# Altium footprint library PCB库.PcbLib: 36 footprints (part 1 of 3)
Each footprint in its own frame and in the unit in brackets; x right, y up, seen from the top. Pads: shape width x height; smd on the part's side, far side on the other; paste and mask are expansions set on the pad; w line width, h text height; cw(c..) or ccw(c..) is an arc to the next point about the centre after c.
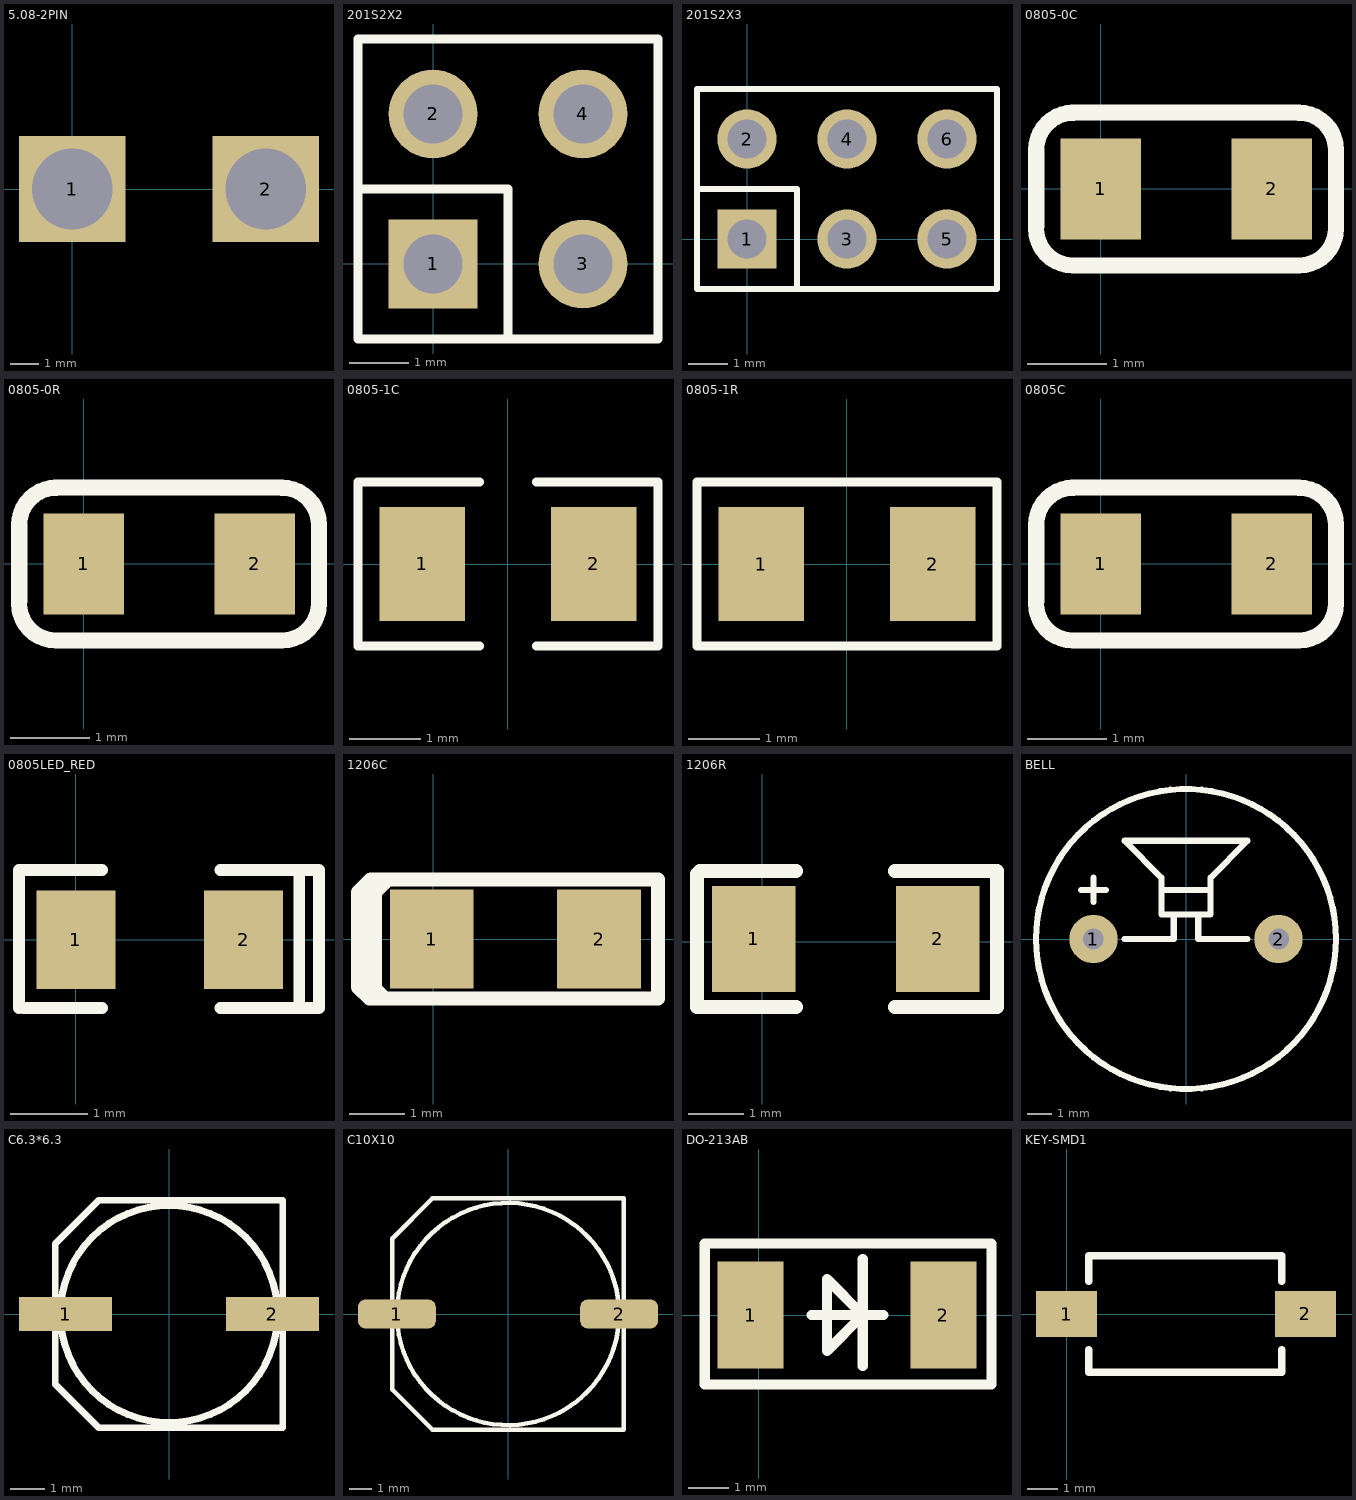
[diagram p0: the footprints below, top view; thin cyan lines are the x and y axes]

## 5.08-2PIN [mm]
pads (2):
  rect 3.7x3.7 hole 2.8: 1(0,0) 2(6.731,0)

## 201S2X2 [mm]
pads (4):
  rect 1.5x1.5 hole 1: 1(0,0)
  round 1.5 hole 1: 2(0,2.54) 3(2.54,0) 4(2.54,2.54)
Top Overlay:
  lines w0.15: -1.27,1.27 1.27,1.27 1.27,-1.27 ; -1.27,-1.27 3.81,-1.27 3.81,3.81 -1.27,3.81 -1.27,-1.27
3D body "User Library-PLD-4.step": height 8.54, standoff -3, extent -1.27,-1.27 3.81,3.81

## 201S2X3 [mm]
pads (6):
  rect 1.5x1.5 hole 1: 1(0,0)
  round 1.5 hole 1: 2(0,2.54) 3(2.54,0) 4(2.54,2.54) 5(5.08,0) 6(5.08,2.54)
Top Overlay:
  lines w0.15: -1.27,1.27 1.27,1.27 1.27,-1.27 ; -1.27,-1.27 -1.27,3.81 6.35,3.81 6.35,-1.27 -1.27,-1.27
3D body "User Library-PLD-6.step": height 8.4, standoff -3, extent -1.27,-1.23 6.35,3.77

## 0805-0C [mil]
height 39.37
pads (2):
  rect 40x50 smd: 1(0,0) 2(85,0)
Top Overlay:
  lines w8: -32.11,-19.59 ccw(c-13.7,-19.59) -13.7,-38 ; -32,-18.5 -32,18.5 ; -32,19.5 cw(c-13.59,19.5) -13.59,37.91 ; -14.12,38 98.09,38 ; -12.7,-38 98.11,-38 ; 98.59,-38 ccw(c98.59,-19.59) 117,-19.59 ; 98.59,37.91 cw(c98.59,19.5) 117,19.5 ; 117,-18.59 117,18.5
3D body "User Library-0805 SMD Capacitor.STEP": height 30.39, standoff -0.39, extent 3.15,-24.61 81.89,24.61

## 0805-0R [mil]
height 39.37
pads (2):
  rect 40x50 smd: 1(0,0) 2(85,0)
Top Overlay:
  lines w8: -32.11,-19.59 ccw(c-13.7,-19.59) -13.7,-38 ; -32,-18.5 -32,18.5 ; -32,19.5 cw(c-13.59,19.5) -13.59,37.91 ; -14.12,38 98.09,38 ; -12.7,-38 98.11,-38 ; 98.59,-38 ccw(c98.59,-19.59) 117,-19.59 ; 98.59,37.91 cw(c98.59,19.5) 117,19.5 ; 117,-18.59 117,18.5
3D body "User Library-0805 SMD R.STEP": height 30.39, standoff -0.39, extent 3.26,-24.61 82,24.61

## 0805-1C [mm]
pads (2):
  rect 1.2x1.6 smd: 1(-1.2,0) 2(1.2,0)
Top Overlay:
  lines w0.127: -0.4,-1.15 -2.1,-1.15 -2.1,1.15 -0.4,1.15 ; 0.4,-1.15 2.1,-1.15 2.1,1.15 0.4,1.15
3D body "Capacitor 0805 SMD.step": height 0.93, standoff -0.01, extent -1.455,-0.719 1.545,0.681

## 0805-1R [mm] "small type  ver20150428"
pads (2):
  rect 1.2x1.6 smd: 1(-1.2,0) 2(1.2,0)
Top Overlay:
  lines w0.127: -2.1,-1.15 -2.1,1.15 2.1,1.15 2.1,-1.15 -2.1,-1.15
3D body "User Library-RES_2013-0805.STEP": height 0.76, standoff 0, extent -1.09,-0.645 1.21,0.705

## 0805C [mil]
pads (2):
  rect 40x50 smd: 1(0,0) 2(85,0)
Top Overlay:
  lines w8: -32.11,-19.59 ccw(c-13.7,-19.59) -13.7,-38 ; -32,-18.5 -32,18.5 ; -32,19.5 cw(c-13.59,19.5) -13.59,37.91 ; -14.12,38 98.09,38 ; -12.7,-38 98.11,-38 ; 98.59,-38 ccw(c98.59,-19.59) 117,-19.59 ; 98.59,37.91 cw(c98.59,19.5) 117,19.5 ; 117,-18.59 117,18.5
3D body "User Library-0805 SMD Capacitor.STEP": height 30.39, standoff -0.39, extent 3.15,-24.61 81.89,24.61

## 0805LED_RED [mil]
pads (2):
  rect 40x50 smd: 1(0,0) 2(85,0)
Top Overlay:
  lines w5.98: 113.15,-34.61 123.15,-34.61 ; 113.15,35.39 123.15,35.39
  lines w6: -28.86,-34.61 -28.86,35.39 13.15,35.39 ; -26.85,-34.61 13.15,-34.61 ; 73.15,-34.61 113.15,-34.61 113.15,35.39 73.15,35.39 ; 123.15,-34.61 123.15,35.39
3D body "User Library-led_0805.STEP": height 43.31, standoff 0, extent 3.39,-24.21 82.91,25

## 1206C [mil]
pads (2):
  rect 59.06x70 smd: 1(-1,0) 2(117.11,0)
Top Overlay:
  lines w10: -46,-35 -46,35 ; -41,-25 -41,-34.94 -33.94,-42 -44.94,-42 -52.94,-34 -52.94,33 -43.94,42 -41,42 ; -41,21 -41,32.94 -31.94,42 ; -41,42 -41,-41 -40,-42 35,-42 84.69,-42 158.69,-42 158.69,41 158.69,42 83.69,42 35,42 -41,42
3D body "User Library-cap_1206_0_95.step": height 37.4, standoff 0, extent -5,-32 120.98,30.99

## 1206R [mil]
pads (2):
  rect 59.06x75 smd: 1(-6,2) 2(124,2)
Top Overlay:
  lines w10: 24,-46 -46,-46 -46,48 -44,50 24,50 ; 94,-46 166,-46 166,-2 166,50 94,50
3D body "User Library-RES_3216-1206.STEP": height 33.46, standoff 0, extent -7.94,-32 123.94,36.11

## BELL [mm]
pads (2):
  round 2 hole 0.85: 1(-3.825,0) 2(3.825,0)
Top Overlay:
  circle w0.254: c0,0 r6.2
  lines w0.254: -4.333,2.032 -3.317,2.032 ; -3.825,1.524 -3.825,2.54 ; -2.54,0 -0.508,0 -0.508,1.016 ; -1.016,2.032 1.016,2.032 ; 0.508,1.016 0.508,0 2.54,0 ; -2.54,4.064 -1.016,2.54 -1.016,1.016 1.016,1.016 1.016,2.54 2.54,4.064 -2.54,4.064
3D body "SW3dPS-WST-1203UX.STEP": height 9.65, standoff -4.5, extent -9.708,-6.127 5.746,5.873

## C6.3*6.3 [mm]
pads (2):
  rect 2.7x1 smd: 1(-3,0) 2(3,0)
Top Overlay:
  circle w0.2: c0,0 r3.15
  lines w0.2: -3.3,2.032 -3.3,-2.032 -2.032,-3.3 3.3,-3.3 3.3,3.3 -2.032,3.3 -3.287,2.045
3D body "SL-E.step": height 5.2, standoff 0, extent -3.5,-3.302 3.5,3.298

## C10X10 [mm]
height 10
pads (2):
  rrect50% 3.5x1.3 smd: 1(-5,0) 2(5,0)
Top Overlay:
  circle w0.2: c0,0 r5
  lines w0.2: -5.2,3.404 -5.2,-3.404 -3.404,-5.2 5.2,-5.2 5.2,5.2 -3.404,5.2 -5.191,3.413
3D body "SW3dPS-capacitor size G.STEP": height 10.21, standoff -0.01, extent -5.775,-5.118 5.825,5.182

## DO-213AB [mil] "LL4150X25MM"
pads (2):
  rect 65x105 smd: 1(-8,0) 2(181,0)
Top Overlay:
  lines w10: 52,0 122,0 ; 102,-50 102,55 ; -53,-68 228,-68 228,70 -53,70 -53,-68 ; 67,-35 102,0 67,35 67,-35

## KEY-SMD1 [mm]
pads (2):
  rect 2x1.5 smd: 1(0,0) 2(7.8,0)
Top Overlay:
  lines w0.254: 0.725,-1.168 0.725,-1.9 7.025,-1.9 7.025,-1.168 ; 0.725,1.067 0.725,1.9 7.025,1.9 7.025,1.067
3D body "SMD按?": height 2.5, standoff 0, extent -0.059,-1.945 7.831,1.905